# EAGLE library part LMV324I? (library IC - Linear - Amps - Instr,OpAmps,Buff)
Quad Operational Amplifier Low-voltage, rail-to-rail output quad op-amp http://focus.ti.com/lit/ds/symlink/lmv321.pdf
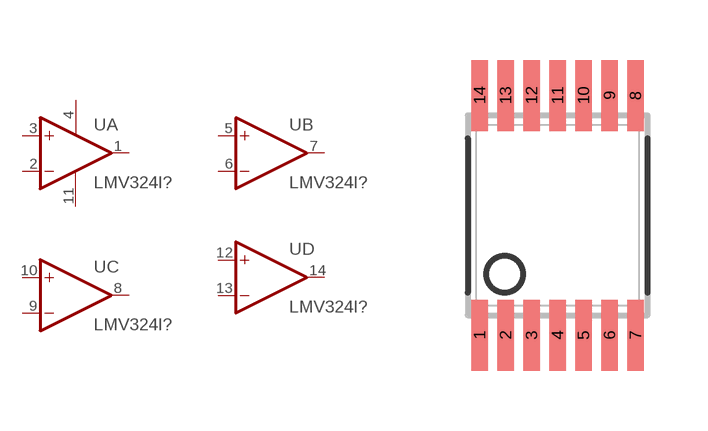
[diagram p0: symbol with the pads of TSSOP14; footprint TSSOP14]

Designator prefix U; gates A=OPAMP B=OPAMP C=OPAMP D=OPAMP P=PWR+-

## LMV324IP  [TSSOP14]
1  A:OUT  out
2  A:-IN  in
3  A:+IN  in
4  P:V+  pwr
5  B:+IN  in
6  B:-IN  in
7  B:OUT  out
8  C:OUT  out
9  C:-IN  in
10  C:+IN  in
11  P:V-  pwr
12  D:+IN  in
13  D:-IN  in
14  D:OUT  out

## Footprint TSSOP14 (pad centres in mm)
Thin Shrink Small Outline Plastic 14 4.40mm width
smd 0.42 x 1.78: 1 -1.95,-3; 2 -1.3,-3; 3 -0.65,-3; 4 0,-3; 5 0.65,-3; 6 1.3,-3; 7 1.95,-3; 8 1.95,3; 9 1.3,3; 10 0.65,3; 11 0,3; 12 -0.65,3; 13 -1.3,3; 14 -1.95,3